# EAGLE library part LPC1765FBD100 (library nxp_60)
LPC1765 100 MHz 32-bit ARM Cortex-M3 based microcontroller featuring a high level of integration and low power consumption. 256 kB Flash, 64 kB SRAM, USB Device/Host/OTG, 2 CAN, DAC MarcVl - Datasheet available on www.nxp.com
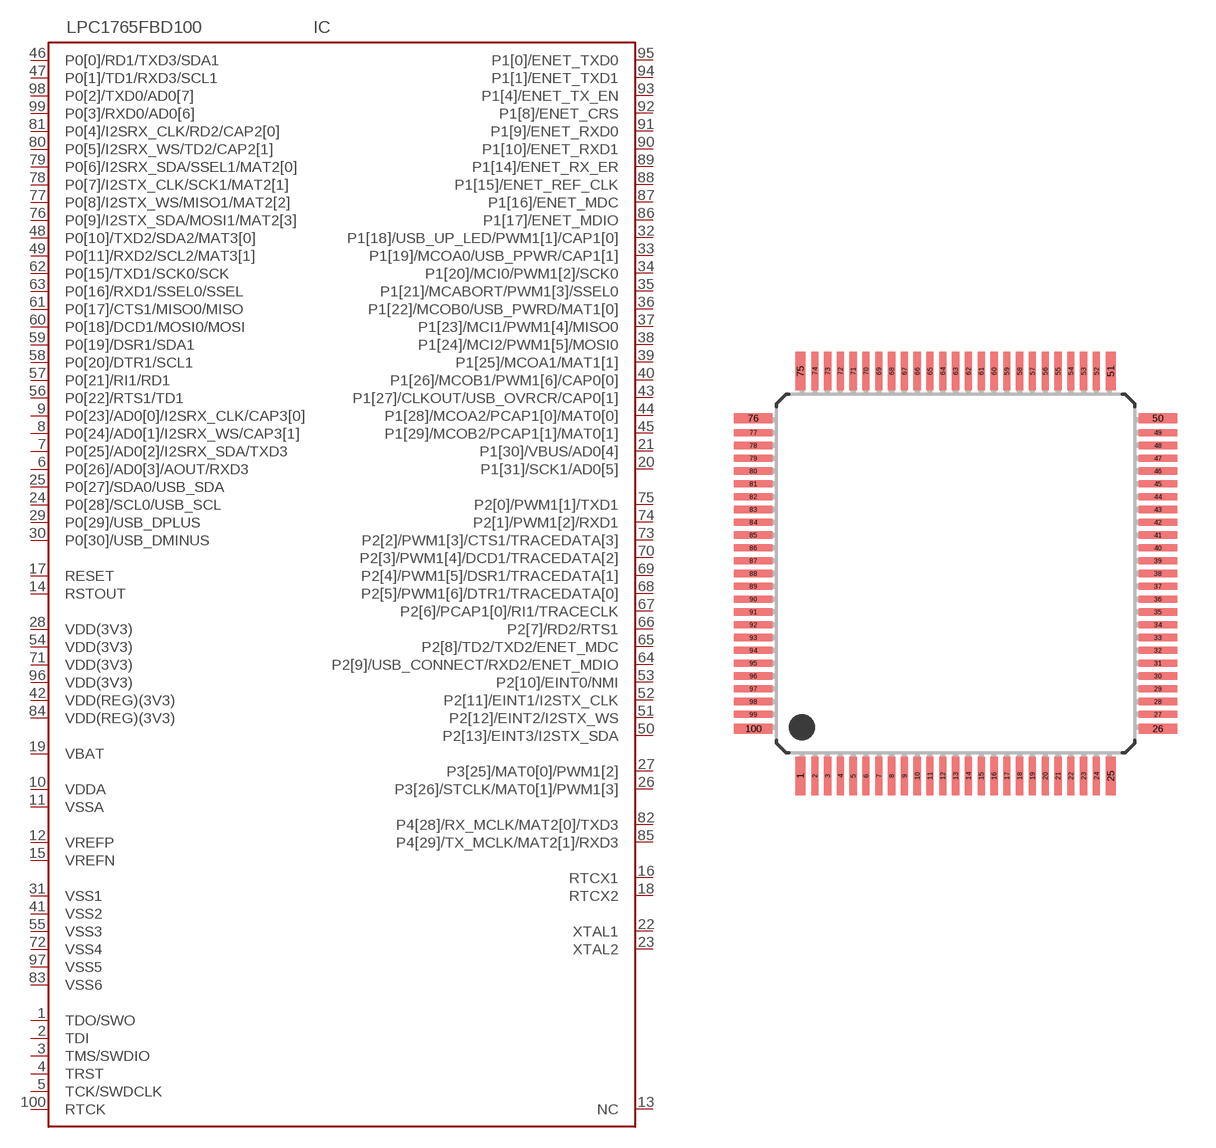
[diagram p23: symbol with the pads of SOT407-1; footprint SOT407-1]

Designator prefix IC

## LPC1765FBD100  [SOT407-1]
1  TDO/SWO
2  TDI
3  TMS/SWDIO
4  TRST
5  TCK/SWDCLK
6  P0[26]/AD0[3]/AOUT/RXD3
7  P0[25]/AD0[2]/I2SRX_SDA/TXD3
8  P0[24]/AD0[1]/I2SRX_WS/CAP3[1]
9  P0[23]/AD0[0]/I2SRX_CLK/CAP3[0]
10  VDDA
11  VSSA
12  VREFP
13  NC
14  RSTOUT
15  VREFN
16  RTCX1
17  RESET
18  RTCX2
19  VBAT
20  P1[31]/SCK1/AD0[5]
21  P1[30]/VBUS/AD0[4]
22  XTAL1
23  XTAL2
24  P0[28]/SCL0/USB_SCL
25  P0[27]/SDA0/USB_SDA
26  P3[26]/STCLK/MAT0[1]/PWM1[3]
27  P3[25]/MAT0[0]/PWM1[2]
28  VDD(3V3)
29  P0[29]/USB_DPLUS
30  P0[30]/USB_DMINUS
31  VSS1
32  P1[18]/USB_UP_LED/PWM1[1]/CAP1[0]
33  P1[19]/MCOA0/USB_PPWR/CAP1[1]
34  P1[20]/MCI0/PWM1[2]/SCK0
35  P1[21]/MCABORT/PWM1[3]/SSEL0
36  P1[22]/MCOB0/USB_PWRD/MAT1[0]
37  P1[23]/MCI1/PWM1[4]/MISO0
38  P1[24]/MCI2/PWM1[5]/MOSI0
39  P1[25]/MCOA1/MAT1[1]
40  P1[26]/MCOB1/PWM1[6]/CAP0[0]
41  VSS2
42  VDD(REG)(3V3)
43  P1[27]/CLKOUT/USB_OVRCR/CAP0[1]
44  P1[28]/MCOA2/PCAP1[0]/MAT0[0]
45  P1[29]/MCOB2/PCAP1[1]/MAT0[1]
46  P0[0]/RD1/TXD3/SDA1
47  P0[1]/TD1/RXD3/SCL1
48  P0[10]/TXD2/SDA2/MAT3[0]
49  P0[11]/RXD2/SCL2/MAT3[1]
50  P2[13]/EINT3/I2STX_SDA
51  P2[12]/EINT2/I2STX_WS
52  P2[11]/EINT1/I2STX_CLK
53  P2[10]/EINT0/NMI
54  VDD(3V3)
55  VSS3
56  P0[22]/RTS1/TD1
57  P0[21]/RI1/RD1
58  P0[20]/DTR1/SCL1
59  P0[19]/DSR1/SDA1
60  P0[18]/DCD1/MOSI0/MOSI
61  P0[17]/CTS1/MISO0/MISO
62  P0[15]/TXD1/SCK0/SCK
63  P0[16]/RXD1/SSEL0/SSEL
64  P2[9]/USB_CONNECT/RXD2/ENET_MDIO
65  P2[8]/TD2/TXD2/ENET_MDC
66  P2[7]/RD2/RTS1
67  P2[6]/PCAP1[0]/RI1/TRACECLK
68  P2[5]/PWM1[6]/DTR1/TRACEDATA[0]
69  P2[4]/PWM1[5]/DSR1/TRACEDATA[1]
70  P2[3]/PWM1[4]/DCD1/TRACEDATA[2]
71  VDD(3V3)
72  VSS4
73  P2[2]/PWM1[3]/CTS1/TRACEDATA[3]
74  P2[1]/PWM1[2]/RXD1
75  P2[0]/PWM1[1]/TXD1
76  P0[9]/I2STX_SDA/MOSI1/MAT2[3]
77  P0[8]/I2STX_WS/MISO1/MAT2[2]
78  P0[7]/I2STX_CLK/SCK1/MAT2[1]
79  P0[6]/I2SRX_SDA/SSEL1/MAT2[0]
80  P0[5]/I2SRX_WS/TD2/CAP2[1]
81  P0[4]/I2SRX_CLK/RD2/CAP2[0]
82  P4[28]/RX_MCLK/MAT2[0]/TXD3
83  VSS6
84  VDD(REG)(3V3)
85  P4[29]/TX_MCLK/MAT2[1]/RXD3
86  P1[17]/ENET_MDIO
87  P1[16]/ENET_MDC
88  P1[15]/ENET_REF_CLK
89  P1[14]/ENET_RX_ER
90  P1[10]/ENET_RXD1
91  P1[9]/ENET_RXD0
92  P1[8]/ENET_CRS
93  P1[4]/ENET_TX_EN
94  P1[1]/ENET_TXD1
95  P1[0]/ENET_TXD0
96  VDD(3V3)
97  VSS5
98  P0[2]/TXD0/AD0[7]
99  P0[3]/RXD0/AD0[6]
100  RTCK

## Footprint SOT407-1 (pad centres in mm)
SOT407-1 LQFP100: plastic low profile quad flat package; 100 leads; body 14 x 14 x 1.4 mm JEDEC: MS-026 IEC: 136E20
smd 0.4 x 1.5: 1 -6.06,-7.9; 25 6.06,-7.9; 51 6.06,7.9; 75 -6.06,7.9
smd 0.28 x 1.5: 2 -5.5,-7.9; 3 -5,-7.9; 4 -4.5,-7.9; 5 -4,-7.9; 6 -3.5,-7.9; 7 -3,-7.9; 8 -2.5,-7.9; 9 -2,-7.9; 10 -1.5,-7.9; 11 -1,-7.9; 12 -0.5,-7.9; 13 0,-7.9; 14 0.5,-7.9; 15 1,-7.9; 16 1.5,-7.9; 17 2,-7.9; 18 2.5,-7.9; 19 3,-7.9; 20 3.5,-7.9; 21 4,-7.9; 22 4.5,-7.9; 23 5,-7.9; 24 5.5,-7.9; 52 5.5,7.9; 53 5,7.9; 54 4.5,7.9; 55 4,7.9; 56 3.5,7.9; 57 3,7.9; 58 2.5,7.9; 59 2,7.9; 60 1.5,7.9; 61 1,7.9; 62 0.5,7.9; 63 0,7.9; 64 -0.5,7.9; 65 -1,7.9; 66 -1.5,7.9; 67 -2,7.9; 68 -2.5,7.9; 69 -3,7.9; 70 -3.5,7.9; 71 -4,7.9; 72 -4.5,7.9; 73 -5,7.9; 74 -5.5,7.9
smd 1.5 x 0.4: 26 7.9,-6.06; 50 7.9,6.06; 76 -7.9,6.06; 100 -7.9,-6.06
smd 1.5 x 0.28: 27 7.9,-5.5; 28 7.9,-5; 29 7.9,-4.5; 30 7.9,-4; 31 7.9,-3.5; 32 7.9,-3; 33 7.9,-2.5; 34 7.9,-2; 35 7.9,-1.5; 36 7.9,-1; 37 7.9,-0.5; 38 7.9,0; 39 7.9,0.5; 40 7.9,1; 41 7.9,1.5; 42 7.9,2; 43 7.9,2.5; 44 7.9,3; 45 7.9,3.5; 46 7.9,4; 47 7.9,4.5; 48 7.9,5; 49 7.9,5.5; 77 -7.9,5.5; 78 -7.9,5; 79 -7.9,4.5; 80 -7.9,4; 81 -7.9,3.5; 82 -7.9,3; 83 -7.9,2.5; 84 -7.9,2; 85 -7.9,1.5; 86 -7.9,1; 87 -7.9,0.5; 88 -7.9,0; 89 -7.9,-0.5; 90 -7.9,-1; 91 -7.9,-1.5; 92 -7.9,-2; 93 -7.9,-2.5; 94 -7.9,-3; 95 -7.9,-3.5; 96 -7.9,-4; 97 -7.9,-4.5; 98 -7.9,-5; 99 -7.9,-5.5